# EAGLE library part TPS63001 (library TPS63001)
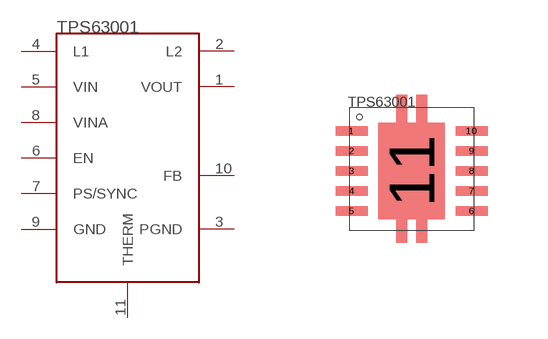
[diagram p0: symbol with the pads of TPS63001; footprint TPS63001]

Designator prefix -

## TPS63001  [TPS63001]
1  VOUT
2  L2
3  PGND
4  L1
5  VIN
6  EN
7  PS/SYNC
8  VINA
9  GND
10  FB
11  THERM

## Footprint TPS63001 (pad centres in mm)
smd 0.8 x 0.24: 1 0.1,2.7; 2 0.1,2.2; 3 0.1,1.7; 4 0.1,1.2; 5 0.1,0.7; 6 3.1,0.7; 7 3.1,1.2; 8 3.1,1.7; 9 3.1,2.2; 10 3.1,2.7
smd 1.65 x 2.4: 11 1.6,1.7